# Altium schematic symbol library Trans_Coilcraft_ JA4220-AL_250mA.SchLib: 1 symbol
Pins are listed as number, name and electrical type; pins without a type are passive.

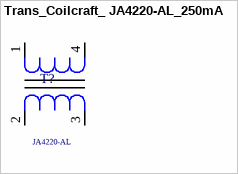
[diagram p0: symbol Trans_Coilcraft_ JA4220-AL_250mA]

## Trans_Coilcraft_ JA4220-AL_250mA
designator T?  Series: JA4220-AL  (hidden comment: Trans_Coilcraft_ JA4220-AL_250mA)
Very wide 3 dB bandwidth: 0.1 MHz to 3.5 GHz. 250 mA max current rating, 1/4 Watt RF input power rating; Supplier 1: Coilcraft Direct; Supplier Part Number 1: JA4220-ALB
footprint Trans_Coilcraft_ JA4220-AL_250mA (Very wide 3 dB bandwidth: 0.1 MHz to 3.5 GHz.  250 mA max current rating, 1/4 Watt RF input power rating)
pins: 1, 2, 3, 4